# Altium schematic symbol library KPA_button.Schlib: 1 symbol
Pins are listed as number, name and electrical type; pins without a type are passive.

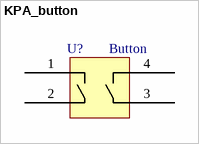
[diagram p0: symbol KPA_button]

## KPA_button
designator U?, comment Button
Назначение: Кнопка; Наименование: Кнопка
footprint BUTTON
pins: 1, 2, 3, 4